# EAGLE library part TEXAS_INSTRUMENTS-LEVEL_SHIFTER-SN74AVC2T245RSWR (library Module_Gates)
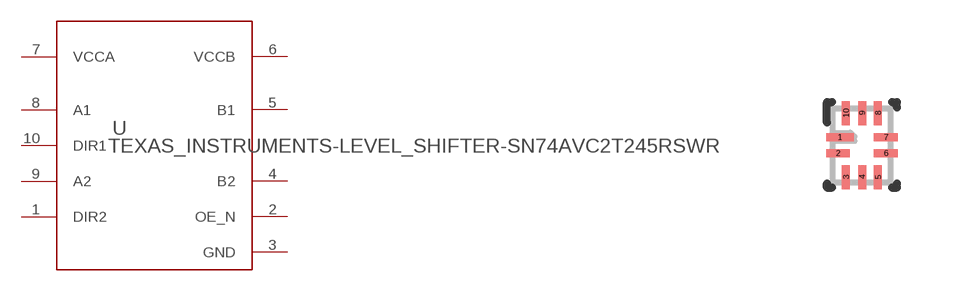
[diagram p1: symbol with the pads of TEXAS_INSTRUMENTS-LEVEL_SHIFTER-SN74AVC2T245RSWR; footprint TEXAS_INSTRUMENTS-LEVEL_SHIFTER-SN74AVC2T245RSWR]

Designator prefix U

## TEXAS_INSTRUMENTS-LEVEL_SHIFTER-SN74AVC2T245RSWR (MANUFACTURER: Texas Instruments; PARTNUMBER: SN74AVC2T245RSWR; REFDES: RefDes; TYPE: TYPE; VALUE: Value)  [TEXAS_INSTRUMENTS-LEVEL_SHIFTER-SN74AVC2T245RSWR]
1  DIR2  in
2  OE_N  in
3  GND  pwr
4  B2
5  B1
6  VCCB  pwr
7  VCCA  pwr
8  A1
9  A2
10  DIR1  in

## Footprint TEXAS_INSTRUMENTS-LEVEL_SHIFTER-SN74AVC2T245RSWR (pad centres in mm)
smd 0.7 x 0.2: 1 -0.788,-0.006
smd 0.6 x 0.2: 2 -0.838,-0.406; 6 0.362,-0.406; 7 0.362,-0.006
smd 0.2 x 0.6: 3 -0.638,-1.006; 4 -0.238,-1.006; 5 0.162,-1.006; 8 0.162,0.594; 9 -0.238,0.594; 10 -0.638,0.594